# Altium schematic symbol library conn_fpc.SchLib: 15 symbols
Pins are listed as number, name and electrical type; pins without a type are passive.

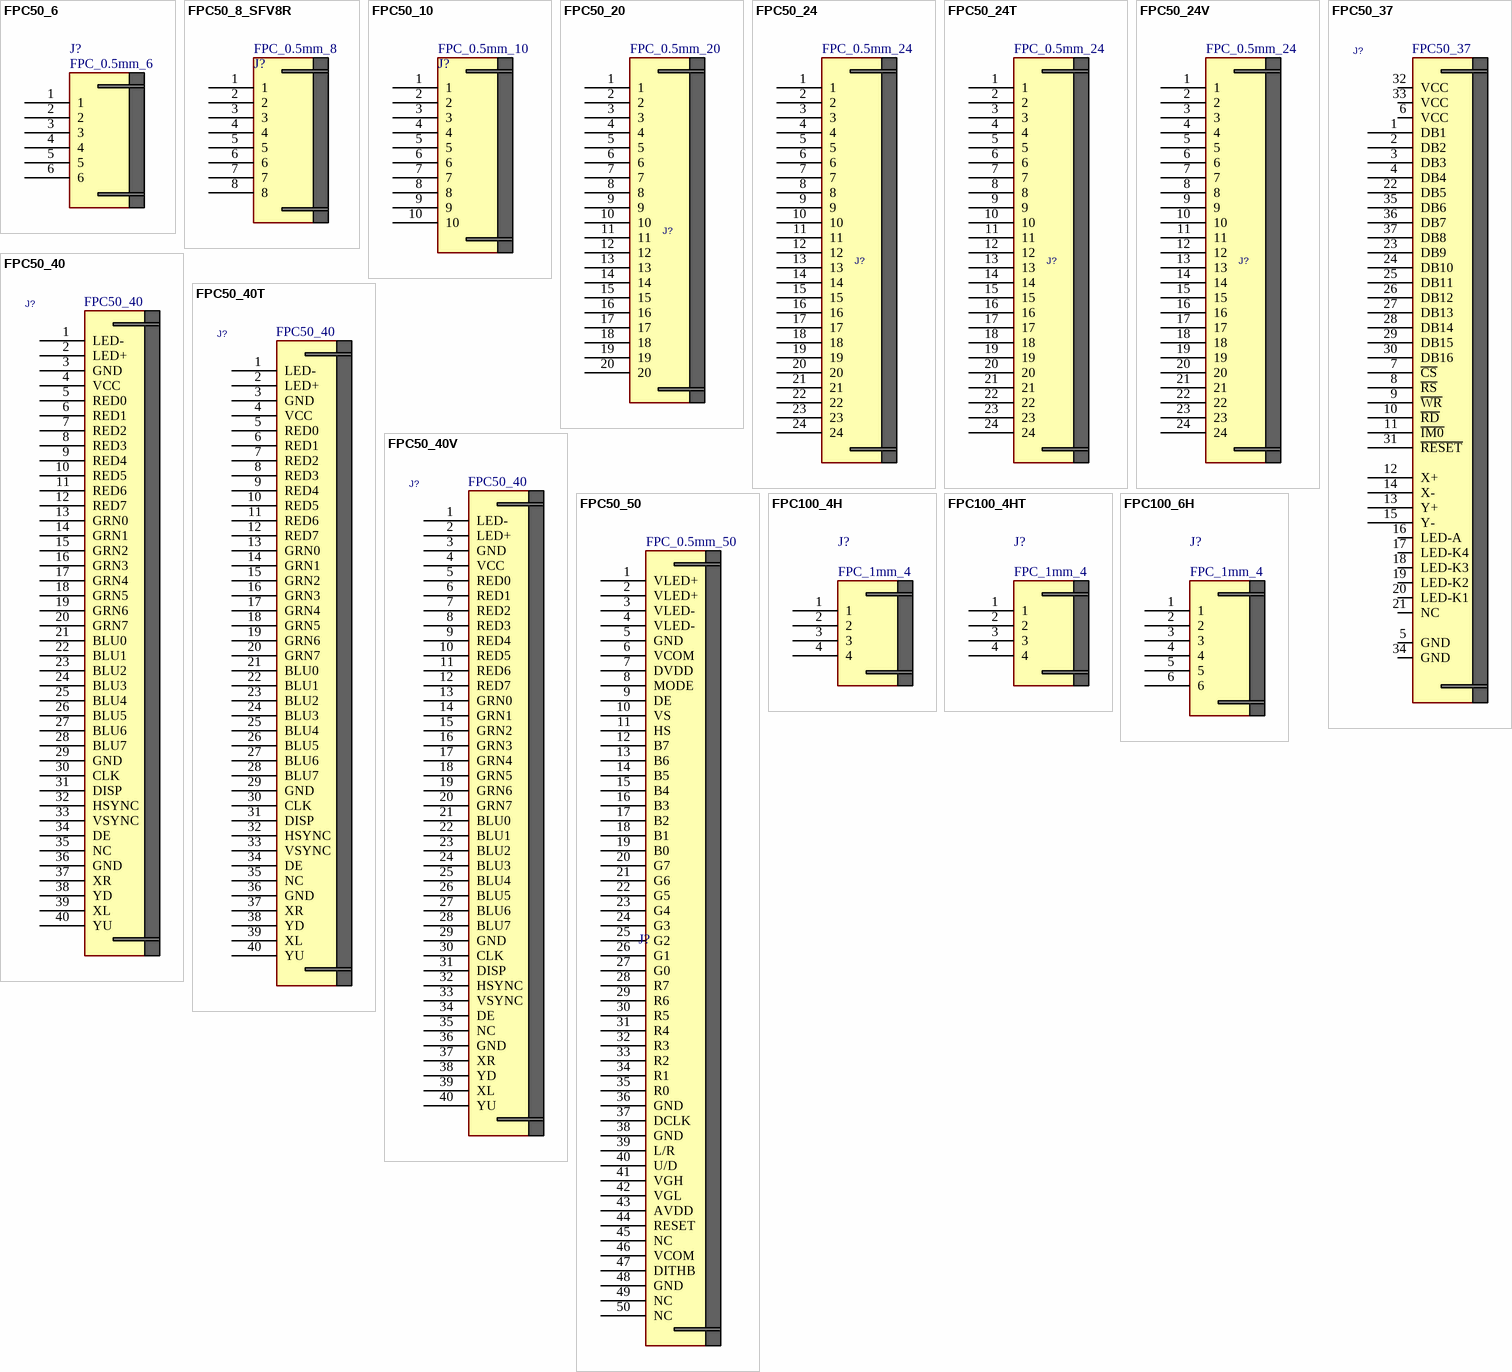
[diagram p0: symbols FPC50_6 to FPC100_6H]

## FPC50_6
designator J?, comment FPC_0.5mm_6
CONN, FPC, 0.50mm pitch, RightAngle, Bot. Contact, Hinge type; MANF: FCI; MANF_P#: SFV6R1STBE1HLF; VALUE: FPC_0.5mm_6
footprint FPC50_6 (FFC-FPC 6pin pitch: 0.5mm FCI SFV6R1STBE1HLF)
pins: 1, 2, 3, 4, 5, 6

## FPC50_8_SFV8R
designator J?, comment FPC_0.5mm_8
CONN, FPC, 0.50mm pitch, RightAngle, Top. Contact, Slide type; DESC: LCD Touch; MANF: Amphenol/FCI; MANF_P#: SFV8R-2STE1HLF; PARAM: -55~105oC; PRICE: 0.3$; VALUE: FPC_0.5mm_8
footprint FPC50_8_SFV8R (FPC 8pin pitch: 0.5mm FCI SFV8R-2STE1HLF)
pins: 1, 2, 3, 4, 5, 6, 7, 8

## FPC50_10
designator J?, comment FPC_0.5mm_10
CONN, FPC, 0.50mm pitch, RightAngle, Bot. Contact, Hinge type; DESC: LCD Touch; MANF: Wurth Elektronik; MANF_P#: 687110149022; VALUE: FPC_0.5mm_10
footprint FPC50_10 (FPC, 0.50mm, SMT,RA Bot. Contact, WE 687110149022)
pins: 1, 2, 3, 4, 5, 6, 7, 8, 9, 10

## FPC50_20
designator J?, comment FPC_0.5mm_20
CONN, FPC, 0.50mm pitch, RightAngle, Bot. Contact; MANF: Hirose; MANF_P#: FH12-20S-0.5SH; PRICE: 2$; VALUE: FPC_0.5mm_20
footprint FPC50_20 (FH12-20S-0.5SH FFC-FPC pitch: 0.5mm)
pins: 1, 2, 3, 4, 5, 6, 7, 8, 9, 10, 11, 12, 13, 14, 15, 16, 17, 18, 19, 20

## FPC50_24
designator J?, comment FPC_0.5mm_24
CONN, FPC, 0.50mm pitch, RightAngle, Bot. Contact; DESC: FH12F-24S-0.5SH(55); MANF: MOLEX, Hirose, FCI; MANF_P#: 52437-2433, FH12-24S-0.5SH(55), SFV24R-1ST; VALUE: FPC_0.5mm_24
footprint FPC50_24 (FPC, FH12 Series; 24 Position; 0.5mm, Bottom Contact, FH12F-24S-0.5SH)
pins: 1, 2, 3, 4, 5, 6, 7, 8, 9, 10, 11, 12, 13, 14, 15, 16, 17, 18, 19, 20, 21, 22, 23, 24

## FPC50_24T
designator J?, comment FPC_0.5mm_24
CONN, FPC, 0.50mm pitch, RightAngle, Top Contact; MANF: Hirose; MANF_P#: FH12A-24S-0.5SH(55); VALUE: FPC_0.5mm_24
footprint FPC50_24T (Connector; FH12 Series; 24 Position; 0.5mm, Top Contact, FH12A-24S-0.5SH(55))
pins: 1, 2, 3, 4, 5, 6, 7, 8, 9, 10, 11, 12, 13, 14, 15, 16, 17, 18, 19, 20, 21, 22, 23, 24

## FPC50_24V
designator J?, comment FPC_0.5mm_24
CONN, FPC, 0.50mm pitch, Vertical; MANF: Hirose; MANF_P#: FH12-24S-0.5SV; VALUE: FPC_0.5mm_24
footprint FPC50_24V (Connector; FH12 Series; 24 Position; 0.5mm, Vertical, FH12-24S-0.5SV)
pins: 1, 2, 3, 4, 5, 6, 7, 8, 9, 10, 11, 12, 13, 14, 15, 16, 17, 18, 19, 20, 21, 22, 23, 24

## FPC50_37
designator J?
CONN, FPC, 0.50mm pitch, RightAngle, Bot. Contact; MANF: TE; MANF_P#: 3-1734592-7; VALUE: FPC50_37
footprint FPC50_40 (FPC, pitch: 0.5mm, FH12-40S-0.5SH, molex 54132-4062)
pins: 1 DB1, 2 DB2, 3 DB3, 4 DB4, 5 GND, 6 VCC, 7 ~{CS}, 8 ~{RS}, 9 ~{WR}, 10 ~{RD}, 11 ~{IM0}, 12 X+, 13 Y+, 14 X-, 15 Y-, 16 LED-A, 17 LED-K4, 18 LED-K3, 19 LED-K2, 20 LED-K1, 21 NC, 22 DB5, 23 DB9, 24 DB10, 25 DB11, 26 DB12, 27 DB13, 28 DB14, 29 DB15, 30 DB16, 31 ~{RESET}, 32 VCC, 33 VCC, 34 GND, 35 DB6, 36 DB7, 37 DB8

## FPC50_40
designator J?
CONN, FPC, 0.50mm pitch, RightAngle, Bot. Contact; DESC: FH12F-40S-0.5SH, FH12S-40S-0.5SH; MANF: MOLEX, Hirose; MANF_P#: 54132‐4062, FH12-40S-0.5SH; VALUE: FPC50_40
footprint FPC50_40 (FPC, pitch: 0.5mm, FH12-40S-0.5SH, molex 54132-4062)
pins: 1 LED-, 2 LED+, 3 GND, 4 VCC, 5 RED0, 6 RED1, 7 RED2, 8 RED3, 9 RED4, 10 RED5, 11 RED6, 12 RED7, 13 GRN0, 14 GRN1, 15 GRN2, 16 GRN3, 17 GRN4, 18 GRN5, 19 GRN6, 20 GRN7, 21 BLU0, 22 BLU1, 23 BLU2, 24 BLU3, 25 BLU4, 26 BLU5, 27 BLU6, 28 BLU7, 29 GND, 30 CLK, 31 DISP, 32 HSYNC, 33 VSYNC, 34 DE, 35 NC, 36 GND, 37 XR, 38 YD, 39 XL, 40 YU

## FPC50_40T
designator J?, comment FPC50_40
CONN, FPC, 0.50mm pitch, RightAngle, Top Contact; MANF: Hirose; MANF_P#: FH12A-40S-0.5SH; VALUE: FPC50_40
footprint FPC50_40T (FPC, FH12 Series; 40 Position; 0.5mm, Top Contact)
pins: 1 LED-, 2 LED+, 3 GND, 4 VCC, 5 RED0, 6 RED1, 7 RED2, 8 RED3, 9 RED4, 10 RED5, 11 RED6, 12 RED7, 13 GRN0, 14 GRN1, 15 GRN2, 16 GRN3, 17 GRN4, 18 GRN5, 19 GRN6, 20 GRN7, 21 BLU0, 22 BLU1, 23 BLU2, 24 BLU3, 25 BLU4, 26 BLU5, 27 BLU6, 28 BLU7, 29 GND, 30 CLK, 31 DISP, 32 HSYNC, 33 VSYNC, 34 DE, 35 NC, 36 GND, 37 XR, 38 YD, 39 XL, 40 YU

## FPC50_40V
designator J?, comment FPC50_40
CONN, FPC, 0.50mm pitch, Vertical; MANF: Hirose; MANF_P#: FH12-40S-0.5SVA; VALUE: FPC50_40
footprint FPC50_40V (FPC, FH12 Series; 40 Position; 0.5mm,Vertical, FH12-40S-0.5SVA)
pins: 1 LED-, 2 LED+, 3 GND, 4 VCC, 5 RED0, 6 RED1, 7 RED2, 8 RED3, 9 RED4, 10 RED5, 11 RED6, 12 RED7, 13 GRN0, 14 GRN1, 15 GRN2, 16 GRN3, 17 GRN4, 18 GRN5, 19 GRN6, 20 GRN7, 21 BLU0, 22 BLU1, 23 BLU2, 24 BLU3, 25 BLU4, 26 BLU5, 27 BLU6, 28 BLU7, 29 GND, 30 CLK, 31 DISP, 32 HSYNC, 33 VSYNC, 34 DE, 35 NC, 36 GND, 37 XR, 38 YD, 39 XL, 40 YU

## FPC50_50
designator J?, comment FPC_0.5mm_50
CONN, FPC, 0.50mm pitch, RightAngle, Bot. Contact; MANF: Hirose; MANF_P#: FH12-50S-0.5SH; VALUE: FPC_0.5mm_50
footprint FPC50_50 (Footprint not found)
pins: 1 VLED+, 2 VLED+, 3 VLED-, 4 VLED-, 5 GND, 6 VCOM, 7 DVDD, 8 MODE, 9 DE, 10 VS, 11 HS, 12 B7, 13 B6, 14 B5, 15 B4, 16 B3, 17 B2, 18 B1, 19 B0, 20 G7, 21 G6, 22 G5, 23 G4, 24 G3, 25 G2, 26 G1, 27 G0, 28 R7, 29 R6, 30 R5, 31 R4, 32 R3, 33 R2, 34 R1, 35 R0, 36 GND, 37 DCLK, 38 GND, 39 L/R, 40 U/D, 41 VGH, 42 VGL, 43 AVDD, 44 RESET, 45 NC, 46 VCOM, 47 DITHB, 48 GND, 49 NC, 50 NC

## FPC100_4H
designator J?, comment FPC_1mm_4
CONN, FPC, 1mm pitch, RightAngle, Bot. Contact; MANF: Molex; MANF_P#: 200529-0040; VALUE: FPC_1mm_4
footprint FPC100_4H (FPC, 1mm, Horizental, Bot. Contact, Molex 200529-0040)
pins: 1, 2, 3, 4

## FPC100_4HT
designator J?, comment FPC_1mm_4
CONN, FPC, 1mm pitch, RightAngle, Top Contact; MANF: TE; MANF_P#: 84953-4; VALUE: FPC_1mm_4
footprint FPC100_4HT (TE Connectivity 4-pin ZIF connector TE84953-4)
pins: 1, 2, 3, 4

## FPC100_6H
designator J?, comment FPC_1mm_4
CONN, FPC, 1mm pitch, RightAngle, Top Contact; MANF: Wurth Electronics, Molex; MANF_P#: 68610614422, 52271-0679; VALUE: FPC_1mm_4
footprint FPC100_6H (FPC 6pin pitch: 1.0mm, Molex 52271-0679)
pins: 1, 2, 3, 4, 5, 6